# Altium schematic symbol library BG0249_R1M1E1.SchLib: 3 symbols
Pins are listed as number, name and electrical type; pins without a type are passive.

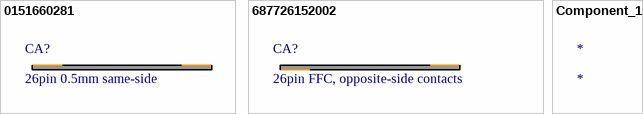
[diagram p0: symbols 0151660281 to Component_1]

## 0151660281
designator CA?, comment 26pin 0.5mm same-side
CABLE FFC 26POS 0.50MM 6"; Manufacturer 1: Molex; Manufacturer Part Number 1: 0151660281; Number of Conductors: 26; Wire/Cable Type: Flat Flex; Pitch: 0.02inch; Supplier 1: Digi-Key; Stock 1: 118; Pricing 1: 1=2.21000, 10=2.01000, 25=1.88680, 50=1.80460, 100=1.72260, 250=1.55856, 500=1.43552, 1000=1.23045, 2500=1.14842 (USD); RoHS: Yes; Number of Pins: 26; Packaging: Bulk; Package Quantity: 1000; Length: 6inch; Cable Pitch: 0.5mm; Radiation Hardening: No; ComponentLink1URL: https://datasheet.ciiva.com/10989/0151660281-cable-10989152.pdf?src-supplier=Avnet; ComponentLink1Description: https://datasheet.ciiva.com/10989/0151660281-cable-10989152.pdf?src-supplier=Avnet; ComponentLink2URL: https://datasheet.ciiva.com/2944/151660051-sd-2944673.pdf?src-supplier=Digi-Key; ComponentLink2Description: https://datasheet.ciiva.com/2944/151660051-sd-2944673.pdf?src-supplier=Digi-Key; Supplier 2: Mouser; Supplier Part Number 1: WM11334-ND; Supplier Part Number 2: 538-15166-0281

## 687726152002
designator CA?, comment 26pin FFC, opposite-side contacts
CABLE FFC .5MM TYPE 2 26P 152MM; Manufacturer 1: Wurth Electronics; Manufacturer Part Number 1: 687726152002; Wire/Cable Type: Flat Flex; Number of Conductors: 26; Pitch: 0.02inch; Cable Length: 6inch; Supplier 1: Digi-Key; Stock 1: 182; Pricing 1: 1=3.08000, 10=3.02400, 50=2.77800, 100=2.57600, 250=2.35200 (USD); RoHS: Yes; Number of Pins: 26; Color: White; Package Quantity: 50; Number of Poles: 26; Number of Cores: 26; Length: 6inch; REACH SVHC: Unknown; ComponentLink1URL: https://www.distrelec.biz/Web/Downloads/94/24/Wuerth_6877xxLLL002_eng_tds.pdf?mime=application%2Fpdf&src-supplier=Distrelec; ComponentLink1Description: https://www.distrelec.biz/Web/Downloads/94/24/Wuerth_6877xxLLL002_eng_tds.pdf?mime=application%2Fpdf&src-supplier=Distrelec; ComponentLink2URL: http://www.mouser.com/ds/2/445/6877xxxxx002-365909.pdf?src-supplier=Mouser; ComponentLink2Description: http://www.mouser.com/ds/2/445/6877xxxxx002-365909.pdf?src-supplier=Mouser; ComponentLink3URL: http://katalog.we-online.de/em/datasheet/6877xxxxx002.pdf?src-supplier=Digi-Key; ComponentLink3Description: http://katalog.we-online.de/em/datasheet/6877xxxxx002.pdf?src-supplier=Digi-Key; ComponentLink4URL: http://www.farnell.com/cad/2005744.pdf?src-supplier=Element14; ComponentLink4Description: http://www.farnell.com/cad/2005744.pdf?src-supplier=Element14; Supplier 2: Mouser; Supplier 3: Farnell; Supplier Part Number 1: 732-5219-ND; Supplier Part Number 2: 710-687726152002; Supplier Part Number 3: 2520272

## Component_1
designator *